# EAGLE library part PCF8563 (library Deegou_IC)
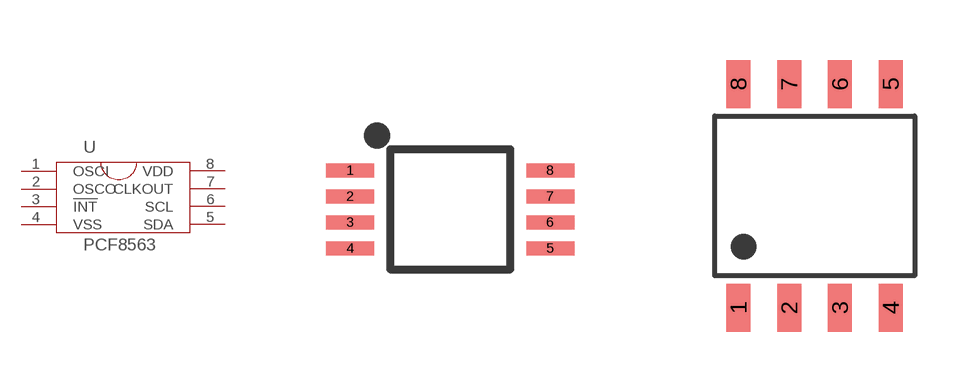
[diagram p174: symbol with the pads of TSSOP8-3MM; footprints TSSOP8-3MM, SOIC8-6.0]

Designator prefix U

## PCF8563  [TSSOP8-3MM]
1  OSCI
2  OSCO
3  !INT
4  VSS
5  SDA
6  SCL
7  CLKOUT
8  VDD

## PCF8563-SO8  [SOIC8-6.0]
Pads as for TSSOP8-3MM

## Footprint TSSOP8-3MM (pad centres in mm)
TSSOP 8-lead, 4.4mm
smd 1.2 x 0.35: 1 -2.5,0.975; 2 -2.5,0.325; 3 -2.5,-0.325; 4 -2.5,-0.975; 5 2.5,-0.975; 6 2.5,-0.325; 7 2.5,0.325; 8 2.5,0.975

## Footprint SOIC8-6.0 (pad centres in mm)
smd 0.6 x 1.2: 1 -1.905,-2.8; 2 -0.635,-2.8; 3 0.635,-2.8; 4 1.905,-2.8; 5 1.905,2.8; 6 0.635,2.8; 7 -0.635,2.8; 8 -1.905,2.8